# Altium footprint library flight-controller.PcbLib: 66 footprints (part 3 of 5)
Each footprint in its own frame and in the unit in brackets; x right, y up, seen from the top. Pads: shape width x height; smd on the part's side, far side on the other; paste and mask are expansions set on the pad; w line width, h text height; cw(c..) or ccw(c..) is an arc to the next point about the centre after c.
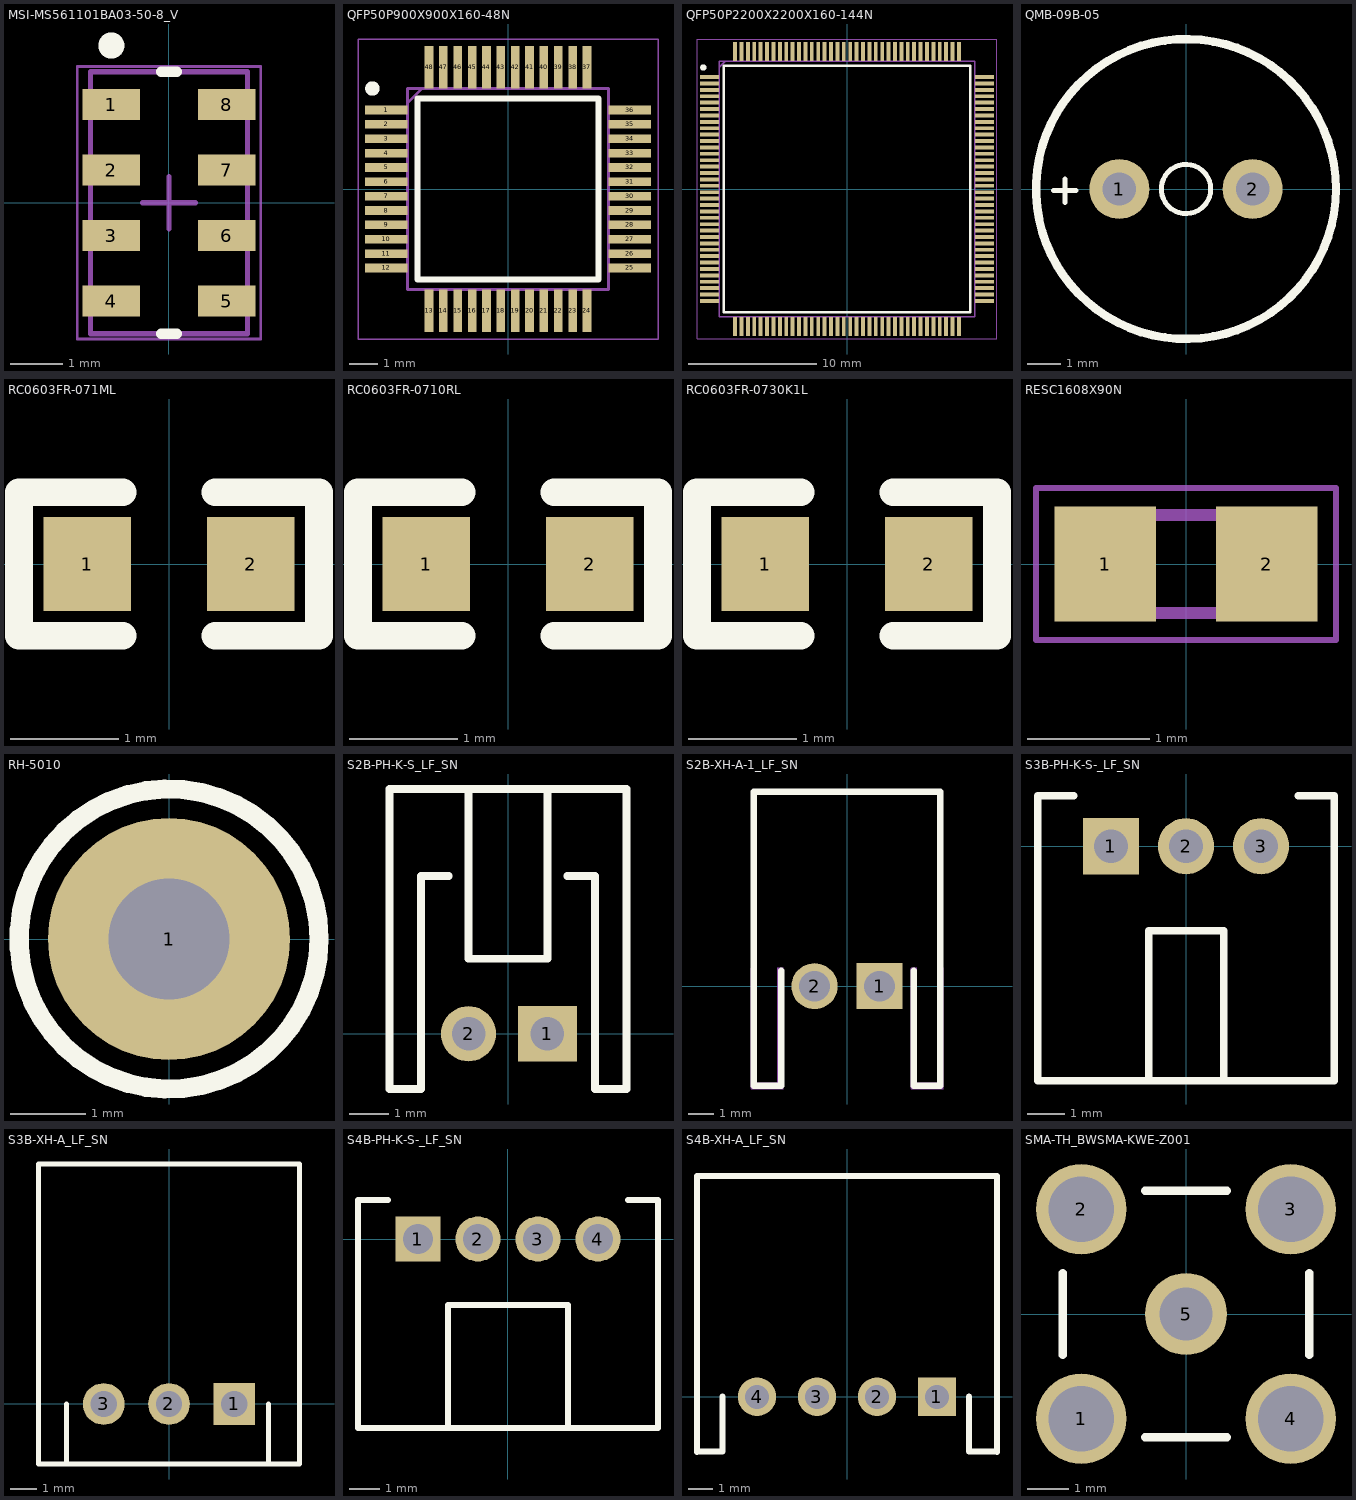
[diagram p2: the footprints below, top view; thin cyan lines are the x and y axes]

## MSI-MS561101BA03-50-8_V [mm] "SMD, 8-Leads, Body 5x3mm, Pitch 1.25mm"
height 1
pads (8):
  rect 1.1x0.6 smd: 1(-1.1,1.875) 2(-1.1,0.625) 3(-1.1,-0.625) 4(-1.1,-1.875) 5(1.1,-1.875) 6(1.1,-0.625) 7(1.1,0.625) 8(1.1,1.875)
Top Overlay:
  circle w0.25: c-1.1,3 r0.125
  lines w0.2: -0.15,-2.5 0.15,-2.5 ; -0.15,2.5 0.15,2.5
Mechanical 13:
  lines w0.1: -1.5,-2.5 1.5,-2.5 1.5,2.5 -1.5,2.5 -1.5,-2.5
Mechanical 15:
  lines w0.05: -1.75,-2.6 1.75,-2.6 1.75,2.6 -1.75,2.6 -1.75,-2.6
  lines w0.1: -0.5,0 0.508,0 0.5,0 ; 0,-0.5 0,0.5
3D body: height 1, standoff 0.3, extent -1.23,-2.23 1.23,2.23
3D body: height 0.3, standoff 0, extent -1.5,-2.5 1.5,2.5

## QFP50P900X900X160-48N [mm]
pads (48):
  rect 1.475x0.3 smd: 1(-4.238,2.75) 2(-4.238,2.25) 3(-4.238,1.75) 4(-4.238,1.25) 5(-4.238,0.75) 6(-4.238,0.25) 7(-4.238,-0.25) 8(-4.238,-0.75) 9(-4.238,-1.25) 10(-4.238,-1.75) 11(-4.238,-2.25) 12(-4.238,-2.75) 25(4.238,-2.75) 26(4.238,-2.25) 27(4.238,-1.75) 28(4.238,-1.25) 29(4.238,-0.75) 30(4.238,-0.25) 31(4.238,0.25) 32(4.238,0.75) 33(4.238,1.25) 34(4.238,1.75) 35(4.238,2.25) 36(4.238,2.75)
  rect 0.3x1.475 smd: 13(-2.75,-4.238) 14(-2.25,-4.238) 15(-1.75,-4.238) 16(-1.25,-4.238) 17(-0.75,-4.238) 18(-0.25,-4.238) 19(0.25,-4.238) 20(0.75,-4.238) 21(1.25,-4.238) 22(1.75,-4.238) 23(2.25,-4.238) 24(2.75,-4.238) 37(2.75,4.238) 38(2.25,4.238) 39(1.75,4.238) 40(1.25,4.238) 41(0.75,4.238) 42(0.25,4.238) 43(-0.25,4.238) 44(-0.75,4.238) 45(-1.25,4.238) 46(-1.75,4.238) 47(-2.25,4.238) 48(-2.75,4.238)
Top Overlay:
  circle w0.25: c-4.725,3.5 r0.125
  lines w0.2: -3.15,-3.15 -3.15,3.15 3.15,3.15 3.15,-3.15 -3.15,-3.15
Mechanical 13:
  lines w0.1: -3.5,3 -3,3.5 ; -3.5,-3.5 -3.5,3.5 3.5,3.5 3.5,-3.5 -3.5,-3.5
Mechanical 15:
  lines w0.05: -5.225,-5.225 -5.225,5.225 5.225,5.225 5.225,-5.225 -5.225,-5.225
3D body "DP83848IVVX_NOPB.stp": height 1.6, standoff 0, extent -4.5,-4.5 4.5,4.5

## QFP50P2200X2200X160-144N [mm]
pads (144):
  rect 1.475x0.3 smd: 1(-10.738,8.75) 2(-10.738,8.25) 3(-10.738,7.75) 4(-10.738,7.25) 5(-10.738,6.75) 6(-10.738,6.25) 7(-10.738,5.75) 8(-10.738,5.25) 9(-10.738,4.75) 10(-10.738,4.25) 11(-10.738,3.75) 12(-10.738,3.25) 13(-10.738,2.75) 14(-10.738,2.25) 15(-10.738,1.75) 16(-10.738,1.25) 17(-10.738,0.75) 18(-10.738,0.25) 19(-10.738,-0.25) 20(-10.738,-0.75) 21(-10.738,-1.25) 22(-10.738,-1.75) 23(-10.738,-2.25) 24(-10.738,-2.75) 25(-10.738,-3.25) 26(-10.738,-3.75) 27(-10.738,-4.25) 28(-10.738,-4.75) 29(-10.738,-5.25) 30(-10.738,-5.75) 31(-10.738,-6.25) 32(-10.738,-6.75) 33(-10.738,-7.25) 34(-10.738,-7.75) 35(-10.738,-8.25) 36(-10.738,-8.75) 73(10.738,-8.75) 74(10.738,-8.25) 75(10.738,-7.75) 76(10.738,-7.25) 77(10.738,-6.75) 78(10.738,-6.25) 79(10.738,-5.75) 80(10.738,-5.25) 81(10.738,-4.75) 82(10.738,-4.25) 83(10.738,-3.75) 84(10.738,-3.25) 85(10.738,-2.75) 86(10.738,-2.25) 87(10.738,-1.75) 88(10.738,-1.25) 89(10.738,-0.75) 90(10.738,-0.25) 91(10.738,0.25) 92(10.738,0.75) 93(10.738,1.25) 94(10.738,1.75) 95(10.738,2.25) 96(10.738,2.75) 97(10.738,3.25) 98(10.738,3.75) 99(10.738,4.25) 100(10.738,4.75) 101(10.738,5.25) 102(10.738,5.75) 103(10.738,6.25) 104(10.738,6.75) 105(10.738,7.25) 106(10.738,7.75) 107(10.738,8.25) 108(10.738,8.75)
  rect 0.3x1.475 smd: 37(-8.75,-10.738) 38(-8.25,-10.738) 39(-7.75,-10.738) 40(-7.25,-10.738) 41(-6.75,-10.738) 42(-6.25,-10.738) 43(-5.75,-10.738) 44(-5.25,-10.738) 45(-4.75,-10.738) 46(-4.25,-10.738) 47(-3.75,-10.738) 48(-3.25,-10.738) 49(-2.75,-10.738) 50(-2.25,-10.738) 51(-1.75,-10.738) 52(-1.25,-10.738) 53(-0.75,-10.738) 54(-0.25,-10.738) 55(0.25,-10.738) 56(0.75,-10.738) 57(1.25,-10.738) 58(1.75,-10.738) 59(2.25,-10.738) 60(2.75,-10.738) 61(3.25,-10.738) 62(3.75,-10.738) 63(4.25,-10.738) 64(4.75,-10.738) 65(5.25,-10.738) 66(5.75,-10.738) 67(6.25,-10.738) 68(6.75,-10.738) 69(7.25,-10.738) 70(7.75,-10.738) 71(8.25,-10.738) 72(8.75,-10.738) 109(8.75,10.738) 110(8.25,10.738) 111(7.75,10.738) 112(7.25,10.738) 113(6.75,10.738) 114(6.25,10.738) 115(5.75,10.738) 116(5.25,10.738) 117(4.75,10.738) 118(4.25,10.738) 119(3.75,10.738) 120(3.25,10.738) 121(2.75,10.738) 122(2.25,10.738) 123(1.75,10.738) 124(1.25,10.738) 125(0.75,10.738) 126(0.25,10.738) 127(-0.25,10.738) 128(-0.75,10.738) 129(-1.25,10.738) 130(-1.75,10.738) 131(-2.25,10.738) 132(-2.75,10.738) 133(-3.25,10.738) 134(-3.75,10.738) 135(-4.25,10.738) 136(-4.75,10.738) 137(-5.25,10.738) 138(-5.75,10.738) 139(-6.25,10.738) 140(-6.75,10.738) 141(-7.25,10.738) 142(-7.75,10.738) 143(-8.25,10.738) 144(-8.75,10.738)
Top Overlay:
  circle w0.25: c-11.225,9.5 r0.125
  lines w0.2: -9.65,-9.65 9.65,-9.65 9.65,9.65 -9.65,9.65 -9.65,-9.65
Mechanical 13:
  lines w0.1: -10,9.5 -9.5,10 ; -10,-10 10,-10 10,10 -10,10 -10,-10
Mechanical 15:
  lines w0.05: -11.725,-11.725 11.725,-11.725 11.725,11.725 -11.725,11.725 -11.725,-11.725
3D body "STM32H745ZIT6.stp": height 1.6, standoff 0, extent -10.948,-10.948 10.948,10.948

## QMB-09B-05 [mm]
pads (2):
  rrect100% 1.8x1.8 hole 1: 1(-2,0) 2(2,0)
Top Overlay:
  circle w0.15: c0,0 r0.741
  circle w0.254: c0,0 r4.5
  lines w0.15: -3.975,-0.049 -3.3,-0.049 ; -3.631,-0.4 -3.631,0.3
3D body "QMB-09B-05.step": height 5.51, standoff -4.5, extent -4.5,-4.5 4.5,4.5

## RC0603FR-071ML [mm]
pads (2):
  rect 0.806x0.864 smd: 1(-0.753,0) 2(0.753,0)
Top Overlay:
  lines w0.254: -0.426,-0.661 -1.385,-0.661 -1.385,0.661 -0.426,0.661 ; 0.426,-0.661 1.385,-0.661 1.385,0.661 0.426,0.661
3D body "RC0603FR-071ML.step": height 0.44, standoff -0.01, extent -0.81,-0.4 0.81,0.41

## RC0603FR-0710RL [mm]
pads (2):
  rect 0.806x0.864 smd: 1(-0.753,0) 2(0.753,0)
Top Overlay:
  lines w0.254: -0.426,-0.661 -1.385,-0.661 -1.385,0.661 -0.426,0.661 ; 0.426,-0.661 1.385,-0.661 1.385,0.661 0.426,0.661
3D body "RC0603FR-0710RL.step": height 0.44, standoff -0.01, extent -0.81,-0.403 0.81,0.407

## RC0603FR-0730K1L [mm]
pads (2):
  rect 0.806x0.864 smd: 1(-0.753,0) 2(0.753,0)
Top Overlay:
  lines w0.254: -0.426,-0.661 -1.385,-0.661 -1.385,0.661 -0.426,0.661 ; 0.426,-0.661 1.385,-0.661 1.385,0.661 0.426,0.661
3D body "RC0603FR-0730K1L.step": height 0.44, standoff -0.01, extent -0.81,-0.4 0.81,0.41

## RESC1608X90N [mm]
pads (2):
  rect 0.83x0.94 smd: 1(-0.66,0) 2(0.66,0)
Mechanical 13:
  lines w0.1: -0.8,-0.4 0.8,-0.4 0.8,0.4 -0.8,0.4 -0.8,-0.4
Mechanical 15:
  lines w0.05: -1.225,-0.62 1.225,-0.62 1.225,0.62 -1.225,0.62 -1.225,-0.62
3D body "RC0603FR-0710KL.stp": height 0.55, standoff 0, extent -0.8,-0.4 0.8,0.4

## RH-5010 [mm]
pads (1):
  rrect100% 3.2x3.2 hole 1.6: 1(0,0)
Top Overlay:
  circle w0.254: c0,0 r1.984
3D body "RH-5010.step": height 8.12, standoff -3.17, extent -1.585,-1.573 1.585,1.586

## S2B-PH-K-S_LF_SN [mm]
pads (2):
  rect 1.5x1.4 hole 0.85: 1(1,0)
  rrect100% 1.4x1.4 hole 0.85: 2(-1,0)
Top Overlay:
  lines w0.2: -1.5,4 -2.2,4 -2.2,-1.4 -3,-1.4 -3,6.2 3,6.2 ; -1,6.2 -1,1.9 1,1.9 1,6.1 ; 1.5,4 2.2,4 2.2,-1.4 3,-1.4 3,6.159
3D body "S2B-PH-K-S_LF_SN.step": height 5.05, standoff -3.5, extent -3.001,-1.45 3,6.25

## S2B-XH-A-1_LF_SN [mm]
pads (2):
  rect 1.8x1.8 hole 1.2: 1(1.27,0)
  rrect100% 1.8x1.8 hole 1.2: 2(-1.27,0)
Top Overlay:
  lines w0.254: -3.65,-3.9 -2.578,-3.9 -2.578,0.601 ; -3.64,-3.9 -3.64,7.6 3.64,7.6 3.64,-3.9 ; 2.598,0.601 2.598,-3.9 3.62,-3.9
Mechanical 6:
  region: 3.72,7.6 3.72,0.75 3.57,0.75 3.57,7.5 3.52,7.55 -3.53,7.55 -3.58,7.5 -3.58,0.75 -3.73,0.75 -3.73,7.6 -3.63,7.7 3.62,7.7
  region: -2.483,-4.018 -3.742,-4.018 -3.762,-3.998 -3.762,0.7 -3.742,0.72 -3.523,0.72 -3.523,-3.778 -2.723,-3.778 -2.723,0.72 -2.483,0.72
  region: 3.758,-4.018 2.499,-4.018 2.479,-3.998 2.479,0.7 2.499,0.72 2.719,0.72 2.719,-3.778 3.518,-3.778 3.518,0.72 3.758,0.72
3D body "S2B-XH-A-1_LF_SN.step": height 6.1, standoff -3.4, extent -3.7,-3.9 3.701,7.6

## S3B-PH-K-S-_LF_SN [mm]
pads (3):
  rect 1.5x1.5 hole 0.9: 1(-2,0)
  rrect100% 1.5x1.5 hole 0.9: 2(0,0) 3(2,0)
Top Overlay:
  lines w0.2: -3,1.35 -3.95,1.35 -3.95,-6.25 3.95,-6.25 3.95,1.35 3,1.35 ; -0.999,-6.25 -0.999,-2.25 1,-2.25 1,-6.25
Mechanical 6:
  region: -3.9,-6.2 3.9,-6.2 3.9,-5.6 4,-5.6 4,-6.2 3.9,-6.3 -3.9,-6.3 -4,-6.2 -4,-5.4 -3.9,-5.4
3D body "S3B-PH-K-S-_LF_SN.step": height 4.8, standoff -3.4, extent -3.95,-6.2 3.951,1.4

## S3B-XH-A_LF_SN [mm]
pads (3):
  rect 1.6x1.6 hole 1: 1(2.5,0)
  rrect100% 1.6x1.6 hole 1: 2(0,0) 3(-2.5,0)
Top Overlay:
  lines w0.2: -5,-2.301 5,-2.301 5,9.2 -5,9.2 -5,-2.3 ; -3.93,-2.286 -3.93,0 ; 3.81,-2.286 3.81,0
3D body "S3B-XH-A_LF_SN.step": height 6.1, standoff -3.4, extent -4.95,-2.3 4.951,9.2

## S4B-PH-K-S-_LF_SN [mm]
pads (4):
  rect 1.5x1.5 hole 1: 1(-3,0)
  rrect100% 1.5x1.5 hole 1: 2(-1,0) 3(1,0) 4(3,0)
Top Overlay:
  lines w0.2: -5,-6.3 -5,1.3 -4,1.3 ; -4.999,-6.301 5,-6.301 ; -1.999,-6.2 -1.999,-2.199 2,-2.199 ; 1.999,-6.2 1.999,-2.199 ; 4,1.3 5,1.3 ; 4.999,-6.301 4.999,1.301
3D body "S4B-PH-K-S-_LF_SN.step": height 4.8, standoff -3.4, extent -4.95,-6.2 4.951,1.4

## S4B-XH-A_LF_SN [mm]
pads (4):
  rect 1.6x1.6 hole 1: 1(3.75,0)
  rrect100% 1.6x1.6 hole 1: 2(1.25,0) 3(-1.25,0) 4(-3.75,0)
Top Overlay:
  lines w0.254: -6.25,-2.3 -6.25,9.2 6.25,9.2 6.25,-2.301 ; -6.25,-2.286 -5.18,-2.286 -5.18,0 ; 3.81,0.127 3.937,0 ; 5.08,0 5.08,-2.286 6.25,-2.286
3D body "S4B-XH-A_LF_SN.step": height 6.1, standoff -3.4, extent -6.2,-2.25 6.2,9.25

## SMA-TH_BWSMA-KWE-Z001 [mm]
pads (5):
  round 2.2 hole 1.6: 1(-2.55,-2.55) 2(-2.55,2.55) 3(2.55,2.55) 4(2.55,-2.55)
  round 2 hole 1.3: 5(0,0)
Top Overlay:
  lines w0.2: -3,-1 -3,1 ; -1,-3 1,-3 ; -1,3 1,3 ; 3,-1 3,1
Mechanical 6:
  circle w0.45: c0,0 r0.23
  circle w0.06: c-3,-3.02 r0.03
3D body "SMA-TH_5P-L14.5-W6.0-H9.6_BWSMA-KWE-Z001.step": height 9.77, standoff -3.4, extent -3,-3.175 11.5,3.175